# Altium integrated library RHD2000_eval_board.IntLib: 58 symbols
Pins are listed as number, name and electrical type; pins without a type are passive.

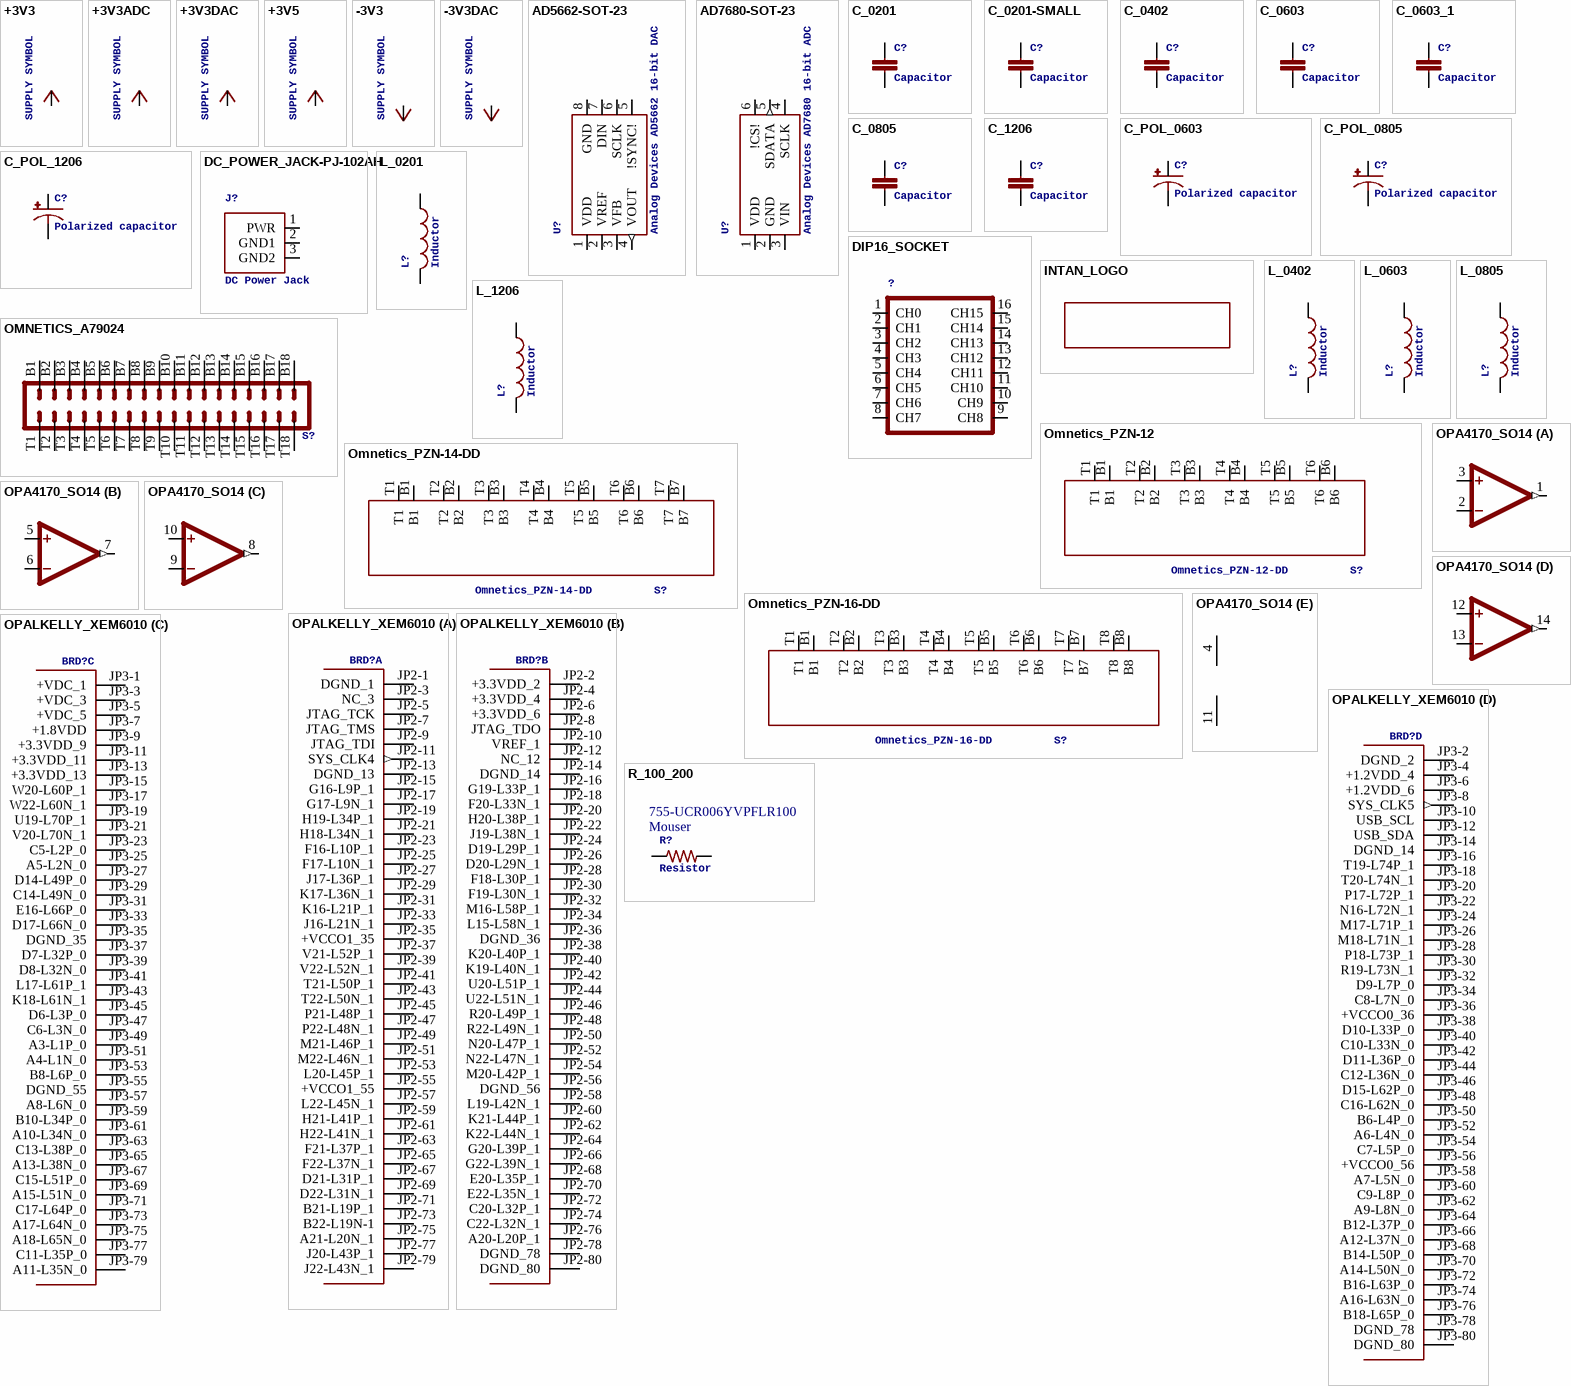
[diagram p0: symbols +3V3 to R_100_200]

## +3V3
designator +3V3?, comment SUPPLY SYMBOL
GateName_1: G$1; SymbolName_1: +3V3; LibraryName: RHD2000_eval_board; DeviceSetName: +3V3
pins: ?1 +3V3 (oe)

## +3V3ADC
designator +3V3ADC?, comment SUPPLY SYMBOL
GateName_1: G$1; SymbolName_1: +3V3ADC; LibraryName: RHD2000_eval_board; DeviceSetName: +3V3ADC
pins: ?1 +3V3ADC (oe)

## +3V3DAC
designator +3V3DAC?, comment SUPPLY SYMBOL
GateName_1: G$1; SymbolName_1: +3V3DAC; LibraryName: RHD2000_eval_board; DeviceSetName: +3V3DAC
pins: ?1 +3V3DAC (oe)

## +3V5
designator +3V5?, comment SUPPLY SYMBOL
GateName_1: G$1; SymbolName_1: +3V5; LibraryName: RHD2000_eval_board; DeviceSetName: +3V5
pins: ?1 +3V5 (oe)

## -3V3
designator -3V3?, comment SUPPLY SYMBOL
GateName_1: G$1; SymbolName_1: -3V3; LibraryName: RHD2000_eval_board; DeviceSetName: -3V3
pins: ?1 -3V3 (oe)

## -3V3DAC
designator -3V3DAC?, comment SUPPLY SYMBOL
GateName_1: G$1; SymbolName_1: -3V3DAC; LibraryName: RHD2000_eval_board; DeviceSetName: -3V3DAC
pins: ?1 -3V3DAC (oe)

## AD5662-SOT-23
designator U?, comment Analog Devices AD5662 16-bit DAC
GateName_1: A; DeviceName: -SOT-23; SymbolName_1: AD5662; LibraryName: RHD2000_eval_board; DeviceSetName: AD5662; Package: SOT-23-RJ-8
footprint SOT-23-RJ-8
pins: 1 VDD (power), 2 VREF, 3 VFB, 4 VOUT (out), 5 !SYNC!, 6 SCLK, 7 DIN, 8 GND (power)

## AD7680-SOT-23
designator U?, comment Analog Devices AD7680 16-bit ADC
GateName_1: A; DeviceName: -SOT-23; SymbolName_1: AD7680; LibraryName: RHD2000_eval_board; DeviceSetName: AD7680; Package: SOT-23-RJ-6
footprint SOT-23-RJ-6
pins: 1 VDD (power), 2 GND (power), 3 VIN, 4 SCLK, 5 SDATA (out), 6 !CS!

## C_0201
designator C?, comment Capacitor
GateName_1: C; DeviceName: _0201; SymbolName_1: C; LibraryName: RHD2000_eval_board; DeviceSetName: C; Package: 0201
footprint 0201
pins: 1, 2

## C_0201-SMALL
designator C?, comment Capacitor
GateName_1: C; DeviceName: _0201; SymbolName_1: C; LibraryName: RHD2000_eval_board; DeviceSetName: C; Package: 0201
footprint 0201-SMALL
pins: 1, 2

## C_0402
designator C?, comment Capacitor
GateName_1: C; DeviceName: _0402; SymbolName_1: C; LibraryName: RHD2000_eval_board; DeviceSetName: C; Package: 0402
footprint 0402
pins: 1, 2

## C_0603
designator C?, comment Capacitor
GateName_1: C; DeviceName: _0603; SymbolName_1: C; LibraryName: RHD2000_eval_board; DeviceSetName: C; Package: 0603
footprint 0603
pins: 1, 2

## C_0603_1
designator C?, comment Capacitor
GateName_1: C; DeviceName: _0603; SymbolName_1: C; LibraryName: RHD2000_eval_board; DeviceSetName: C; Package: 0603
footprint 0603
pins: 1, 2

## C_0805
designator C?, comment Capacitor
GateName_1: C; DeviceName: _0805; SymbolName_1: C; LibraryName: RHD2000_eval_board; DeviceSetName: C; Package: 0805
footprint 0805
pins: 1, 2

## C_1206
designator C?, comment Capacitor
GateName_1: C; DeviceName: _1206; SymbolName_1: C; LibraryName: RHD2000_eval_board; DeviceSetName: C; Package: 1206
footprint 1206
pins: 1, 2

## C_POL_0603
designator C?, comment Polarized capacitor
GateName_1: C; SymbolName_1: C_POL; DeviceName: _0603; LibraryName: RHD2000_eval_board; DeviceSetName: C_POL; Package: 0603_POL
footprint 0603_POL
pins: +, -

## C_POL_0805
designator C?, comment Polarized capacitor
GateName_1: C; SymbolName_1: C_POL; DeviceName: _0805; LibraryName: RHD2000_eval_board; DeviceSetName: C_POL; Package: 0805_POL
footprint 0805_POL
pins: +, -

## C_POL_1206
designator C?, comment Polarized capacitor
GateName_1: C; SymbolName_1: C_POL; DeviceName: _1206; LibraryName: RHD2000_eval_board; DeviceSetName: C_POL; Package: 1206_POL
footprint 1206_POL
pins: +, -

## DC_POWER_JACK-PJ-102AH
designator J?, comment DC Power Jack
GateName_1: A; SymbolName_1: DC_POWER_JACK; DeviceName: -PJ-102AH; LibraryName: RHD2000_eval_board; DeviceSetName: DC_POWER_JACK; Package: PJ-102AH
footprint PJ-102AH
pins: 1 PWR (power), 2 GND1 (power), 3 GND2 (power)

## DIP16_SOCKET
designator ?, comment DIP-16 socket footprint  (value not drawn)
GateName_1: A; SymbolName_1: DIP16_SOCKET; LibraryName: RHD2000_eval_board; DeviceSetName: DIP16_SOCKET; Package: DIL16_SOCKET
footprint DIL16_SOCKET
pins: 1 CH0, 2 CH1, 3 CH2, 4 CH3, 5 CH4, 6 CH5, 7 CH6, 8 CH7, 9 CH8, 10 CH9, 11 CH10, 12 CH11, 13 CH12, 14 CH13, 15 CH14, 16 CH15

## INTAN_LOGO
designator ?
GateName_1: G$1; SymbolName_1: INTAN_LOGO; LibraryName: RHD2000_eval_board; DeviceSetName: INTAN_LOGO; Package: INTAN_LOGO
footprint INTAN_LOGO

## L_0201
designator L?, comment Inductor
GateName_1: L; DeviceName: _0201; SymbolName_1: L; LibraryName: RHD2000_eval_board; DeviceSetName: L; Package: 0201
footprint 0201
pins: 1, 2

## L_0402
designator L?, comment Inductor
GateName_1: L; DeviceName: _0402; SymbolName_1: L; LibraryName: RHD2000_eval_board; DeviceSetName: L; Package: 0402
footprint 0402
pins: 1, 2

## L_0603
designator L?, comment Inductor
GateName_1: L; DeviceName: _0603; SymbolName_1: L; LibraryName: RHD2000_eval_board; DeviceSetName: L; Package: 0603
footprint 0603
pins: 1, 2

## L_0805
designator L?, comment Inductor
GateName_1: L; DeviceName: _0805; SymbolName_1: L; LibraryName: RHD2000_eval_board; DeviceSetName: L; Package: 0805
footprint 0805
pins: 1, 2

## L_1206
designator L?, comment Inductor
GateName_1: L; DeviceName: _1206; SymbolName_1: L; LibraryName: RHD2000_eval_board; DeviceSetName: L; Package: 1206
footprint 1206
pins: 1, 2

## OMNETICS_A79024
designator S?, comment Omnetics A79024 36-pin connector  (value not drawn)
GateName_1: A; SymbolName_1: OMNETICS_A7902X; DeviceSetName: OMNETICS_A79024; LibraryName: RHD2000_eval_board; Package: OMNETICS_A79024
footprint OMNETICS_A79024
pins: B1, B2, B3, B4, B5, B6, B7, B8, B9, B10, B11, B12, B13, B14, B15, B16, B17, B18, T1, T2, T3, T4, T5, T6, T7, T8, T9, T10, T11, T12, T13, T14, T15, T16, T17, T18

## Omnetics_PZN-12
designator S?, comment Omnetics_PZN-12-DD
GateName_1: A; SymbolName_1: RHD2000-CABLE; DeviceSetName: RHD2000-CABLE-DAQ-SIDE; LibraryName: RHD2000_eval_board; Package: OMNETICS_PZN-12-AA
footprint OMNETICS_PZN-12-AA
pins: B1, B2, B3, B4, B5, B6, T1, T2, T3, T4, T5, T6 (power)

## Omnetics_PZN-14-DD
designator S?
GateName_1: A; SymbolName_1: RHD2000-CABLE; DeviceSetName: RHD2000-CABLE-DAQ-SIDE; LibraryName: RHD2000_eval_board; Package: OMNETICS_PZN-12-AA
footprint OMNETICS_PZN-14-DD
pins: B1, B2, B3, B4, B5, B6, B7, T1, T2, T3, T4, T5, T6, T7 (power)

## Omnetics_PZN-16-DD
designator S?
GateName_1: A; SymbolName_1: RHD2000-CABLE; DeviceSetName: RHD2000-CABLE-DAQ-SIDE; LibraryName: RHD2000_eval_board; Package: OMNETICS_PZN-12-AA
footprint OMNETICS_PZN-16-DD
pins: B1, B2, B3, B4, B5, B6, B7, B8, T1, T2, T3, T4, T5, T6, T7, T8

## OPA4170_SO14
designator U?, comment TI OPA4170 quad op amp  (value not drawn)
GateName_1: A; SymbolName_1: OPAMP; GateName_2: B; GateName_3: C; GateName_4: D; GateName_5: P; SymbolName_5: PWR+-; DeviceName: _SO14; SymbolName_2: OPAMP; SymbolName_3: OPAMP; SymbolName_4: OPAMP; LibraryName: RHD2000_eval_board; DeviceSetName: OPA4170; Package: SOIC-14
footprint SOIC-14
part A pins: 1 OUT (out), 2 -IN, 3 +IN
part B pins: 5 +IN, 6 -IN, 7 OUT (out)
part C pins: 8 OUT (out), 9 -IN, 10 +IN
part D pins: 12 +IN, 13 -IN, 14 OUT (out)
part E pins: 4 V+ (power), 11 V- (power)

## OPALKELLY_XEM6010
designator BRD?, comment Opal Kelly XEM6010 USB/FPGA module  (value not drawn)
GateName_1: JP2_ODD; SymbolName_1: XEM6010_JP2_ODD; GateName_2: JP2_EVEN; SymbolName_2: XEM6010_JP2_EVEN; GateName_3: JP3_ODD; SymbolName_3: XEM6010_JP3_ODD; GateName_4: JP3_EVEN; SymbolName_4: XEM6010_JP3_EVEN; DeviceSetName: OPALKELLY_XEM6010; LibraryName: RHD2000_eval_board; Package: OPALKELLY_XEM6010
footprint OPALKELLY_XEM6010
part A pins: JP2-1 DGND_1 (power), JP2-3 NC_3, JP2-5 JTAG_TCK, JP2-7 JTAG_TMS, JP2-9 JTAG_TDI, JP2-11 SYS_CLK4 (out), JP2-13 DGND_13 (power), JP2-15 G16-L9P_1, JP2-17 G17-L9N_1, JP2-19 H19-L34P_1, JP2-21 H18-L34N_1, JP2-23 F16-L10P_1, JP2-25 F17-L10N_1, JP2-27 J17-L36P_1, JP2-29 K17-L36N_1, JP2-31 K16-L21P_1, JP2-33 J16-L21N_1, JP2-35 +VCCO1_35 (power), JP2-37 V21-L52P_1, JP2-39 V22-L52N_1, JP2-41 T21-L50P_1, JP2-43 T22-L50N_1, JP2-45 P21-L48P_1, JP2-47 P22-L48N_1, JP2-49 M21-L46P_1, JP2-51 M22-L46N_1, JP2-53 L20-L45P_1, JP2-55 +VCCO1_55 (power), JP2-57 L22-L45N_1, JP2-59 H21-L41P_1, JP2-61 H22-L41N_1, JP2-63 F21-L37P_1, JP2-65 F22-L37N_1, JP2-67 D21-L31P_1, JP2-69 D22-L31N_1, JP2-71 B21-L19P_1, JP2-73 B22-L19N-1, JP2-75 A21-L20N_1, JP2-77 J20-L43P_1, JP2-79 J22-L43N_1
part B pins: JP2-2 +3.3VDD_2 (power), JP2-4 +3.3VDD_4 (power), JP2-6 +3.3VDD_6 (power), JP2-8 JTAG_TDO, JP2-10 VREF_1, JP2-12 NC_12, JP2-14 DGND_14 (power), JP2-16 G19-L33P_1, JP2-18 F20-L33N_1, JP2-20 H20-L38P_1, JP2-22 J19-L38N_1, JP2-24 D19-L29P_1, JP2-26 D20-L29N_1, JP2-28 F18-L30P_1, JP2-30 F19-L30N_1, JP2-32 M16-L58P_1, JP2-34 L15-L58N_1, JP2-36 DGND_36 (power), JP2-38 K20-L40P_1, JP2-40 K19-L40N_1, JP2-42 U20-L51P_1, JP2-44 U22-L51N_1, JP2-46 R20-L49P_1, JP2-48 R22-L49N_1, JP2-50 N20-L47P_1, JP2-52 N22-L47N_1, JP2-54 M20-L42P_1, JP2-56 DGND_56 (power), JP2-58 L19-L42N_1, JP2-60 K21-L44P_1, JP2-62 K22-L44N_1, JP2-64 G20-L39P_1, JP2-66 G22-L39N_1, JP2-68 E20-L35P_1, JP2-70 E22-L35N_1, JP2-72 C20-L32P_1, JP2-74 C22-L32N_1, JP2-76 A20-L20P_1, JP2-78 DGND_78 (power), JP2-80 DGND_80 (power)
part C pins: JP3-1 +VDC_1 (power), JP3-3 +VDC_3 (power), JP3-5 +VDC_5 (power), JP3-7 +1.8VDD (power), JP3-9 +3.3VDD_9 (power), JP3-11 +3.3VDD_11 (power), JP3-13 +3.3VDD_13 (power), JP3-15 W20-L60P_1, JP3-17 W22-L60N_1, JP3-19 U19-L70P_1, JP3-21 V20-L70N_1, JP3-23 C5-L2P_0, JP3-25 A5-L2N_0, JP3-27 D14-L49P_0, JP3-29 C14-L49N_0, JP3-31 E16-L66P_0, JP3-33 D17-L66N_0, JP3-35 DGND_35 (power), JP3-37 D7-L32P_0, JP3-39 D8-L32N_0, JP3-41 L17-L61P_1, JP3-43 K18-L61N_1, JP3-45 D6-L3P_0, JP3-47 C6-L3N_0, JP3-49 A3-L1P_0, JP3-51 A4-L1N_0, JP3-53 B8-L6P_0, JP3-55 DGND_55 (power), JP3-57 A8-L6N_0, JP3-59 B10-L34P_0, JP3-61 A10-L34N_0, JP3-63 C13-L38P_0, JP3-65 A13-L38N_0, JP3-67 C15-L51P_0, JP3-69 A15-L51N_0, JP3-71 C17-L64P_0, JP3-73 A17-L64N_0, JP3-75 A18-L65N_0, JP3-77 C11-L35P_0, JP3-79 A11-L35N_0
part D pins: JP3-2 DGND_2 (power), JP3-4 +1.2VDD_4 (power), JP3-6 +1.2VDD_6 (power), JP3-8 SYS_CLK5 (out), JP3-10 USB_SCL, JP3-12 USB_SDA, JP3-14 DGND_14 (power), JP3-16 T19-L74P_1, JP3-18 T20-L74N_1, JP3-20 P17-L72P_1, JP3-22 N16-L72N_1, JP3-24 M17-L71P_1, JP3-26 M18-L71N_1, JP3-28 P18-L73P_1, JP3-30 R19-L73N_1, JP3-32 D9-L7P_0, JP3-34 C8-L7N_0, JP3-36 +VCCO0_36 (power), JP3-38 D10-L33P_0, JP3-40 C10-L33N_0, JP3-42 D11-L36P_0, JP3-44 C12-L36N_0, JP3-46 D15-L62P_0, JP3-48 C16-L62N_0, JP3-50 B6-L4P_0, JP3-52 A6-L4N_0, JP3-54 C7-L5P_0, JP3-56 +VCCO0_56 (power), JP3-58 A7-L5N_0, JP3-60 C9-L8P_0, JP3-62 A9-L8N_0, JP3-64 B12-L37P_0, JP3-66 A12-L37N_0, JP3-68 B14-L50P_0, JP3-70 A14-L50N_0, JP3-72 B16-L63P_0, JP3-74 A16-L63N_0, JP3-76 B18-L65P_0, JP3-78 DGND_78 (power), JP3-80 DGND_80 (power)

## R_100_200
designator R?, comment Resistor  Supplier 1: Mouser  Supplier Part Number 1: 755-UCR006YVPFLR100
100Ohm resistor for the LVDS pair.; GateName_1: R; DeviceName: _0201; SymbolName_1: R; LibraryName: RHD2000_eval_board; DeviceSetName: R; Package: 0201
footprint 0201
footprint 0201-SMALL
pins: 1, 2

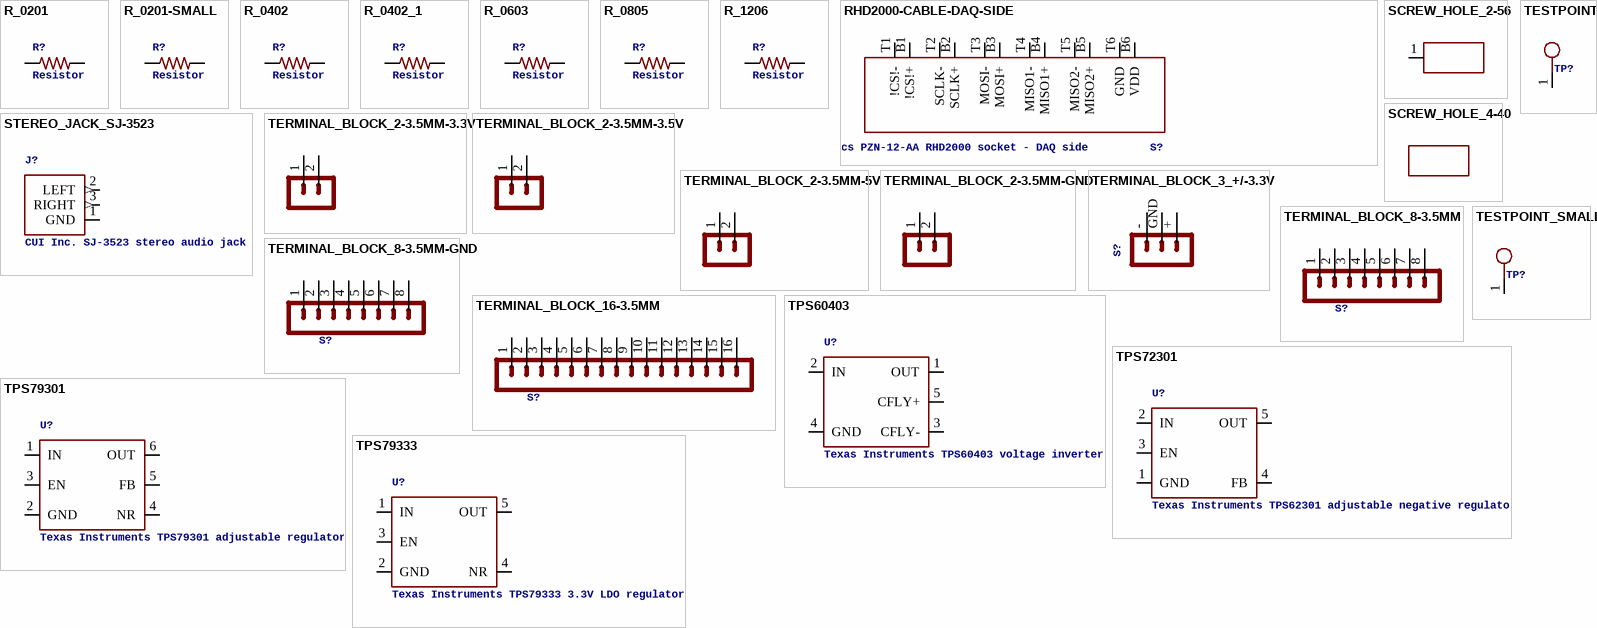
[diagram p1: symbols R_0201 to TPS79333]

## R_0201
designator R?, comment Resistor
GateName_1: R; DeviceName: _0201; SymbolName_1: R; LibraryName: RHD2000_eval_board; DeviceSetName: R; Package: 0201
footprint 0201
pins: 1, 2

## R_0201-SMALL
designator R?, comment Resistor
GateName_1: R; DeviceName: _0201; SymbolName_1: R; LibraryName: RHD2000_eval_board; DeviceSetName: R; Package: 0201
footprint 0201
footprint 0201-SMALL
pins: 1, 2

## R_0402
designator R?, comment Resistor
GateName_1: R; DeviceName: _0402; SymbolName_1: R; LibraryName: RHD2000_eval_board; DeviceSetName: R; Package: 0402
footprint 0402
pins: 1, 2

## R_0402_1
designator R?, comment Resistor
GateName_1: R; DeviceName: _0402; SymbolName_1: R; LibraryName: RHD2000_eval_board; DeviceSetName: R; Package: 0402
footprint 0402
pins: 1, 2

## R_0603
designator R?, comment Resistor
GateName_1: R; DeviceName: _0603; SymbolName_1: R; LibraryName: RHD2000_eval_board; DeviceSetName: R; Package: 0603
footprint 0603
pins: 1, 2

## R_0805
designator R?, comment Resistor
GateName_1: R; DeviceName: _0805; SymbolName_1: R; LibraryName: RHD2000_eval_board; DeviceSetName: R; Package: 0805
footprint 0805
pins: 1, 2

## R_1206
designator R?, comment Resistor
GateName_1: R; DeviceName: _1206; SymbolName_1: R; LibraryName: RHD2000_eval_board; DeviceSetName: R; Package: 1206
footprint 1206
pins: 1, 2

## RHD2000-CABLE-DAQ-SIDE
designator S?, comment Omnetics PZN-12-AA RHD2000 socket - DAQ side
GateName_1: A; SymbolName_1: RHD2000-CABLE; DeviceSetName: RHD2000-CABLE-DAQ-SIDE; LibraryName: RHD2000_eval_board; Package: OMNETICS_PZN-12-AA
footprint OMNETICS_PZN-12-AA
pins: B1 !CS!+, B2 SCLK+, B3 MOSI+, B4 MISO1+, B5 MISO2+, B6 VDD, T1 !CS!-, T2 SCLK-, T3 MOSI-, T4 MISO1-, T5 MISO2-, T6 GND (power)

## SCREW_HOLE_2-56
designator H?, comment Mounting hole  (value not drawn)
GateName_1: A; SymbolName_1: SCREW_HOLE_2-56; LibraryName: RHD2000_eval_board; DeviceSetName: SCREW_HOLE_2-56; Package: SCREW_HOLE_2-56
footprint SCREW_HOLE_2-56
pins: 1

## SCREW_HOLE_4-40
designator H?, comment Mounting hole  (value not drawn)
GateName_1: A; SymbolName_1: SCREW_HOLE_4-40; LibraryName: RHD2000_eval_board; DeviceSetName: SCREW_HOLE_4-40; Package: SCREW_HOLE_4-40
footprint SCREW_HOLE_4-40

## STEREO_JACK_SJ-3523
designator J?, comment CUI Inc. SJ-3523 stereo audio jack
GateName_1: A; SymbolName_1: STEREO_JACK; DeviceName: _SJ-3523; LibraryName: RHD2000_eval_board; DeviceSetName: STEREO_JACK; Package: SJ-3523
footprint SJ-3523
pins: 1 GND (power), 2 LEFT (out), 3 RIGHT (out)

## TERMINAL_BLOCK_2-3.5MM-3.3V
designator S?, comment 2-point terminal block  (value not drawn)
GateName_1: A; SymbolName_1: TERMINAL_BLOCK_2; DeviceName: -3.5MM-3.3V; LibraryName: RHD2000_eval_board; DeviceSetName: TERMINAL_BLOCK_2; Package: TERMINAL_BLOCK_3.5MM_2_3.3V
footprint TERMINAL_BLOCK_3.5MM_2_3.3V
pins: 1 0, 2 1

## TERMINAL_BLOCK_2-3.5MM-3.5V
designator S?, comment 2-point terminal block  (value not drawn)
GateName_1: A; SymbolName_1: TERMINAL_BLOCK_2; DeviceName: -3.5MM-3.5V; LibraryName: RHD2000_eval_board; DeviceSetName: TERMINAL_BLOCK_2; Package: TERMINAL_BLOCK_3.5MM_2_3.5V
footprint TERMINAL_BLOCK_3.5MM_2_3.5V
pins: 1 0, 2 1

## TERMINAL_BLOCK_2-3.5MM-5V
designator S?, comment 2-point terminal block  (value not drawn)
GateName_1: A; SymbolName_1: TERMINAL_BLOCK_2; DeviceName: -3.5MM-5V; LibraryName: RHD2000_eval_board; DeviceSetName: TERMINAL_BLOCK_2; Package: TERMINAL_BLOCK_3.5MM_2_5V
footprint TERMINAL_BLOCK_3.5MM_2_5V
pins: 1 0, 2 1

## TERMINAL_BLOCK_2-3.5MM-GND
designator S?, comment 2-point terminal block  (value not drawn)
GateName_1: A; SymbolName_1: TERMINAL_BLOCK_2; DeviceName: -3.5MM-GND; LibraryName: RHD2000_eval_board; DeviceSetName: TERMINAL_BLOCK_2; Package: TERMINAL_BLOCK_3.5MM_2_GND
footprint TERMINAL_BLOCK_3.5MM_2_GND
pins: 1 0, 2 1

## TERMINAL_BLOCK_3_+/-3.3V
designator S?, comment 3-point terminal block  (value not drawn)
GateName_1: A; SymbolName_1: TERMINAL_BLOCK_3; DeviceName: _+/-3.3V; LibraryName: RHD2000_eval_board; DeviceSetName: TERMINAL_BLOCK_3; Package: TERMINAL_BLOCK_3.5MM_3
footprint TERMINAL_BLOCK_3.5MM_3
pins: +, -, GND

## TERMINAL_BLOCK_8-3.5MM
designator S?, comment 8-point terminal block  (value not drawn)
GateName_1: A; SymbolName_1: TERMINAL_BLOCK_8; DeviceName: -3.5MM; LibraryName: RHD2000_eval_board; DeviceSetName: TERMINAL_BLOCK_8; Package: TERMINAL_BLOCK_3.5MM_8
footprint TERMINAL_BLOCK_3.5MM_8
pins: 1, 2, 3, 4, 5, 6, 7, 8

## TERMINAL_BLOCK_8-3.5MM-GND
designator S?, comment 8-point terminal block  (value not drawn)
GateName_1: A; SymbolName_1: TERMINAL_BLOCK_8; DeviceName: -3.5MM-GND; LibraryName: RHD2000_eval_board; DeviceSetName: TERMINAL_BLOCK_8; Package: TERMINAL_BLOCK_3.5MM_8_GND
footprint TERMINAL_BLOCK_3.5MM_8_GND
pins: 1, 2, 3, 4, 5, 6, 7, 8

## TERMINAL_BLOCK_16-3.5MM
designator S?, comment 16-point terminal block  (value not drawn)
GateName_1: A; SymbolName_1: TERMINAL_BLOCK_16; DeviceName: -3.5MM; LibraryName: RHD2000_eval_board; DeviceSetName: TERMINAL_BLOCK_16; Package: TERMINAL_BLOCK_3.5MM_16
footprint TERMINAL_BLOCK_3.5MM_16
pins: 1 0, 2 1, 3 2, 4 3, 5 4, 6 5, 7 6, 8 7, 9 8, 10 9, 11 10, 12 11, 13 12, 14 13, 15 14, 16 15

## TESTPOINT
designator TP?, comment PCB Test Point  (value not drawn)
GateName_1: TP$1; SymbolName_1: TESTPOINT; LibraryName: RHD2000_eval_board; DeviceSetName: TESTPOINT; Package: TESTPOINT
footprint TESTPOINT
pins: 1

## TESTPOINT_SMALL
designator TP?, comment PCB Test Point  (value not drawn)
GateName_1: TP$1; DeviceName: _SMALL; SymbolName_1: TESTPOINT; LibraryName: RHD2000_eval_board; DeviceSetName: TESTPOINT; Package: TESTPOINT_SMALL
footprint TESTPOINT_SMALL
pins: 1

## TPS60403
designator U?, comment Texas Instruments TPS60403 voltage inverter
GateName_1: A; SymbolName_1: TPS60403; LibraryName: RHD2000_eval_board; DeviceSetName: TPS60403; Package: SOT-23-5
footprint SOT-23-5
pins: 1 OUT (power), 2 IN (power), 3 CFLY-, 4 GND (power), 5 CFLY+

## TPS72301
designator U?, comment Texas Instruments TPS62301 adjustable negative regulator
GateName_1: A; SymbolName_1: TPS72301; LibraryName: RHD2000_eval_board; DeviceSetName: TPS72301; Package: SOT-23-5
footprint SOT-23-5
pins: 1 GND (power), 2 IN (power), 3 EN, 4 FB, 5 OUT (power)

## TPS79301
designator U?, comment Texas Instruments TPS79301 adjustable regulator
GateName_1: A; SymbolName_1: TPS79301; LibraryName: RHD2000_eval_board; DeviceSetName: TPS79301; Package: SOT-23-6
footprint SOT-23-6
pins: 1 IN (power), 2 GND (power), 3 EN, 4 NR, 5 FB, 6 OUT (power)

## TPS79333
designator U?, comment Texas Instruments TPS79333 3.3V LDO regulator
GateName_1: A; SymbolName_1: TPS793XX; LibraryName: RHD2000_eval_board; DeviceSetName: TPS79333; Package: SOT-23-5
footprint SOT-23-5
pins: 1 IN (power), 2 GND (power), 3 EN, 4 NR, 5 OUT (power)